# EAGLE library part L293 (library me210)
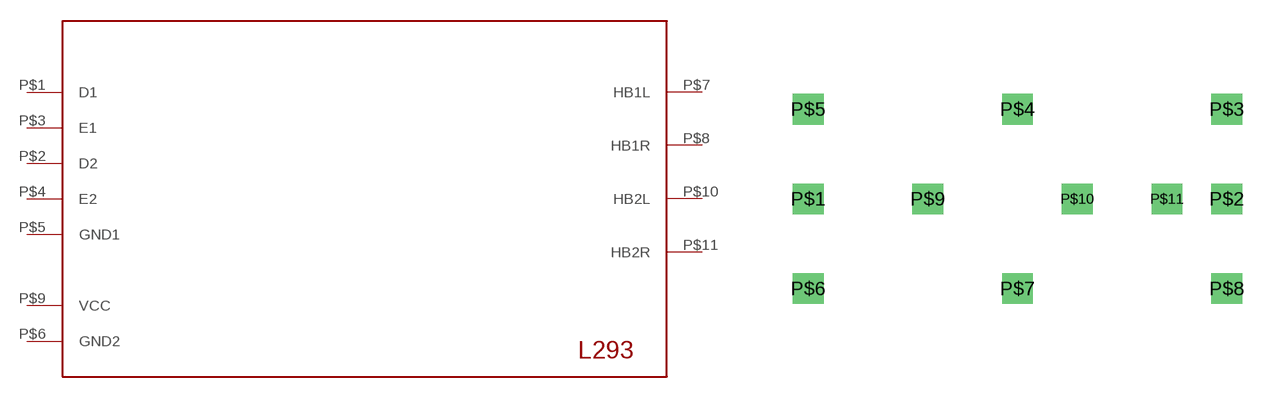
[diagram p1: symbol with the pads of L293; footprint L293]

Designator prefix -

## L293  [L293]
P$1  D1
P$2  D2
P$3  E1
P$4  E2
P$5  GND1
P$6  GND2
P$7  HB1L
P$8  HB1R
P$9  VCC
P$10  HB2L
P$11  HB2R

## Footprint L293 (pad centres in mm)
drill 0.8 square: P$1 -8.89,0; P$2 8.89,0; P$3 8.89,3.81; P$4 0,3.81; P$5 -8.89,3.81; P$6 -8.89,-3.81; P$7 0,-3.81; P$8 8.89,-3.81; P$9 -3.81,0; P$10 2.54,0; P$11 6.35,0